# Altium schematic symbol library BM06B-NSHSS-TBT.SchLib: 1 symbol
Pins are listed as number, name and electrical type; pins without a type are passive.

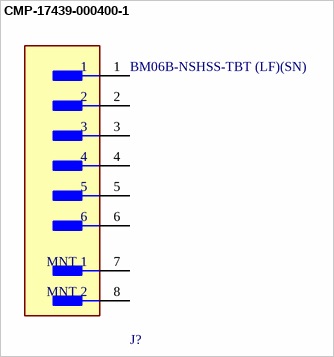
[diagram p0: symbol CMP-17439-000400-1]

## CMP-17439-000400-1
designator J?, comment BM06B-NSHSS-TBT (LF)(SN)
CONN HEADER SMD 6POS 1MM; Max Voltage Rating (AC): 50V; Connector Type: Outer Shroud Contact; Pitch: 0.039inch; Number of Positions: 6; Contact Resistance: 50mR; Max Current Rating: 1A; Housing Material: Polyamide; Depth: 4.95mm; Min Operating Temperature: -25°C; Fastening Type: Latch; Contact Material: Copper Alloy; Orientation: Straight; Length: 8mm; Contact Plating: Tin; Series: NSH; Mount: Surface Mount; Packaging: Cut Tape; Max Operating Temperature: 85°C; Contact Type: Outer Shroud Contact; Housing Color: Natural; Termination: Solder; Color: Natural; Number of Rows: 1
footprint FP-BM06B-NSHSS-TBT_LF_S-MFG
pins: 1, 2, 3, 4, 5, 6, 7 MNT 1, 8 MNT 2